# Altium schematic symbol library 0402 RES_1.Schlib: 1 symbol
Pins are listed as number, name and electrical type; pins without a type are passive.

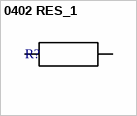
[diagram p0: symbol 0402 RES_1]

## 0402 RES_1
designator R?
Resistor
pins: 1, 2